# EAGLE library part VNH5019 (library DRIVER POLOLU)
aggiornato il 24/10/14 con pin cs (AD)
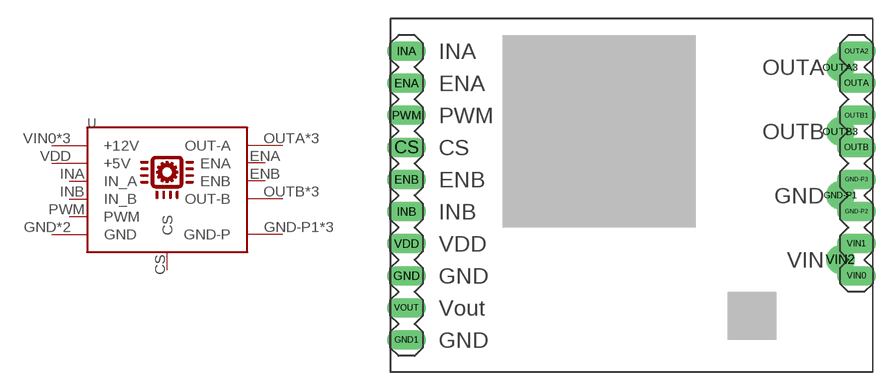
[diagram p0: symbol with the pads of VNH5019; footprint VNH5019]

Designator prefix -

## VNH5019  [VNH5019]
CS  CS
ENA  ENA
ENB  ENB
GND  GND
GND1  GND
GND-P1  GND-P
GND-P2  GND-P
GND-P3  GND-P
INA  IN_A
INB  IN_B
OUTA  OUT-A
OUTA2  OUT-A
OUTA3  OUT-A
OUTB  OUT-B
OUTB1  OUT-B
OUTB3  OUT-B
PWM  PWM
VDD  +5V
VIN0  +12V
VIN1  +12V
VIN2  +12V

## Footprint VNH5019 (pad centres in mm)
drill 1.016 long: CS -16.51,5.08; ENA -16.51,10.16; ENB -16.51,2.54; GND -16.51,-5.08; GND1 -16.51,-10.16; GND-P2 19.05,0; GND-P3 19.05,2.54; INA -16.51,12.7; INB -16.51,0; OUTA 19.05,10.16; OUTA2 19.05,12.7; OUTB 19.05,5.08; OUTB1 19.05,7.62; PWM -16.51,7.62; VDD -16.51,-2.54; VIN0 19.05,-5.08; VIN1 19.05,-2.54; VOUT -16.51,-7.62
drill 1.5: GND-P1 17.78,1.27; OUTA3 17.78,11.43; OUTB3 17.78,6.35; VIN2 17.78,-3.81